# Altium schematic symbol library CAP,Cer,4.7uF,16VDC,X7R,0805.Schlib: 1 symbol
Pins are listed as number, name and electrical type; pins without a type are passive.

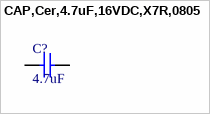
[diagram p0: symbol CAP,Cer,4.7uF,16VDC,X7R,0805]

## CAP,Cer,4.7uF,16VDC,X7R,0805
designator C?, comment 4.7uF
4.7µF ±10% 16V Ceramic Capacitor X7R 0805 (2012 Metric)
pins: 1, 2